# EAGLE library part PIC16F1829 (library fritz)
PIC16f1829 http://ww1.microchip.com/downloads/en/DeviceDoc/41440C.pdf
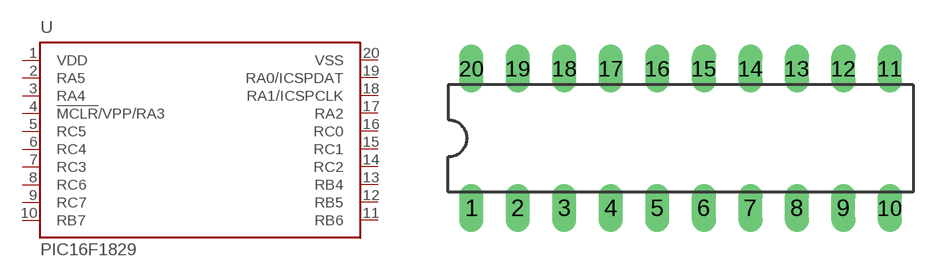
[diagram p0: symbol with the pads of DIL20; footprint DIL20]

Designator prefix -

## PIC16F1829  [DIL20]
1  VDD  in
2  RA5
3  RA4
4  !MCLR!/VPP/RA3
5  RC5
6  RC4
7  RC3
8  RC6  pwr
9  RC7  in
10  RB7  out
11  RB6  pwr
12  RB5  pwr
13  RB4
14  RC2
15  RC1
16  RC0
17  RA2
18  RA1/ICSPCLK
19  RA0/ICSPDAT
20  VSS

## Footprint DIL20 (pad centres in mm)
drill 0.813 long: 1 -11.43,-3.81; 2 -8.89,-3.81; 3 -6.35,-3.81; 4 -3.81,-3.81; 5 -1.27,-3.81; 6 1.27,-3.81; 7 3.81,-3.81; 8 6.35,-3.81; 9 8.89,-3.81; 10 11.43,-3.81; 11 11.43,3.81; 12 8.89,3.81; 13 6.35,3.81; 14 3.81,3.81; 15 1.27,3.81; 16 -1.27,3.81; 17 -3.81,3.81; 18 -6.35,3.81; 19 -8.89,3.81; 20 -11.43,3.81